# Altium footprint library CONN_TBLOCK_5P0_B.PcbLib: 72 footprints (part 1 of 5)
Each footprint in its own frame and in the unit in brackets; x right, y up, seen from the top. Pads: shape width x height; smd on the part's side, far side on the other; paste and mask are expansions set on the pad; w line width, h text height; cw(c..) or ccw(c..) is an arc to the next point about the centre after c.
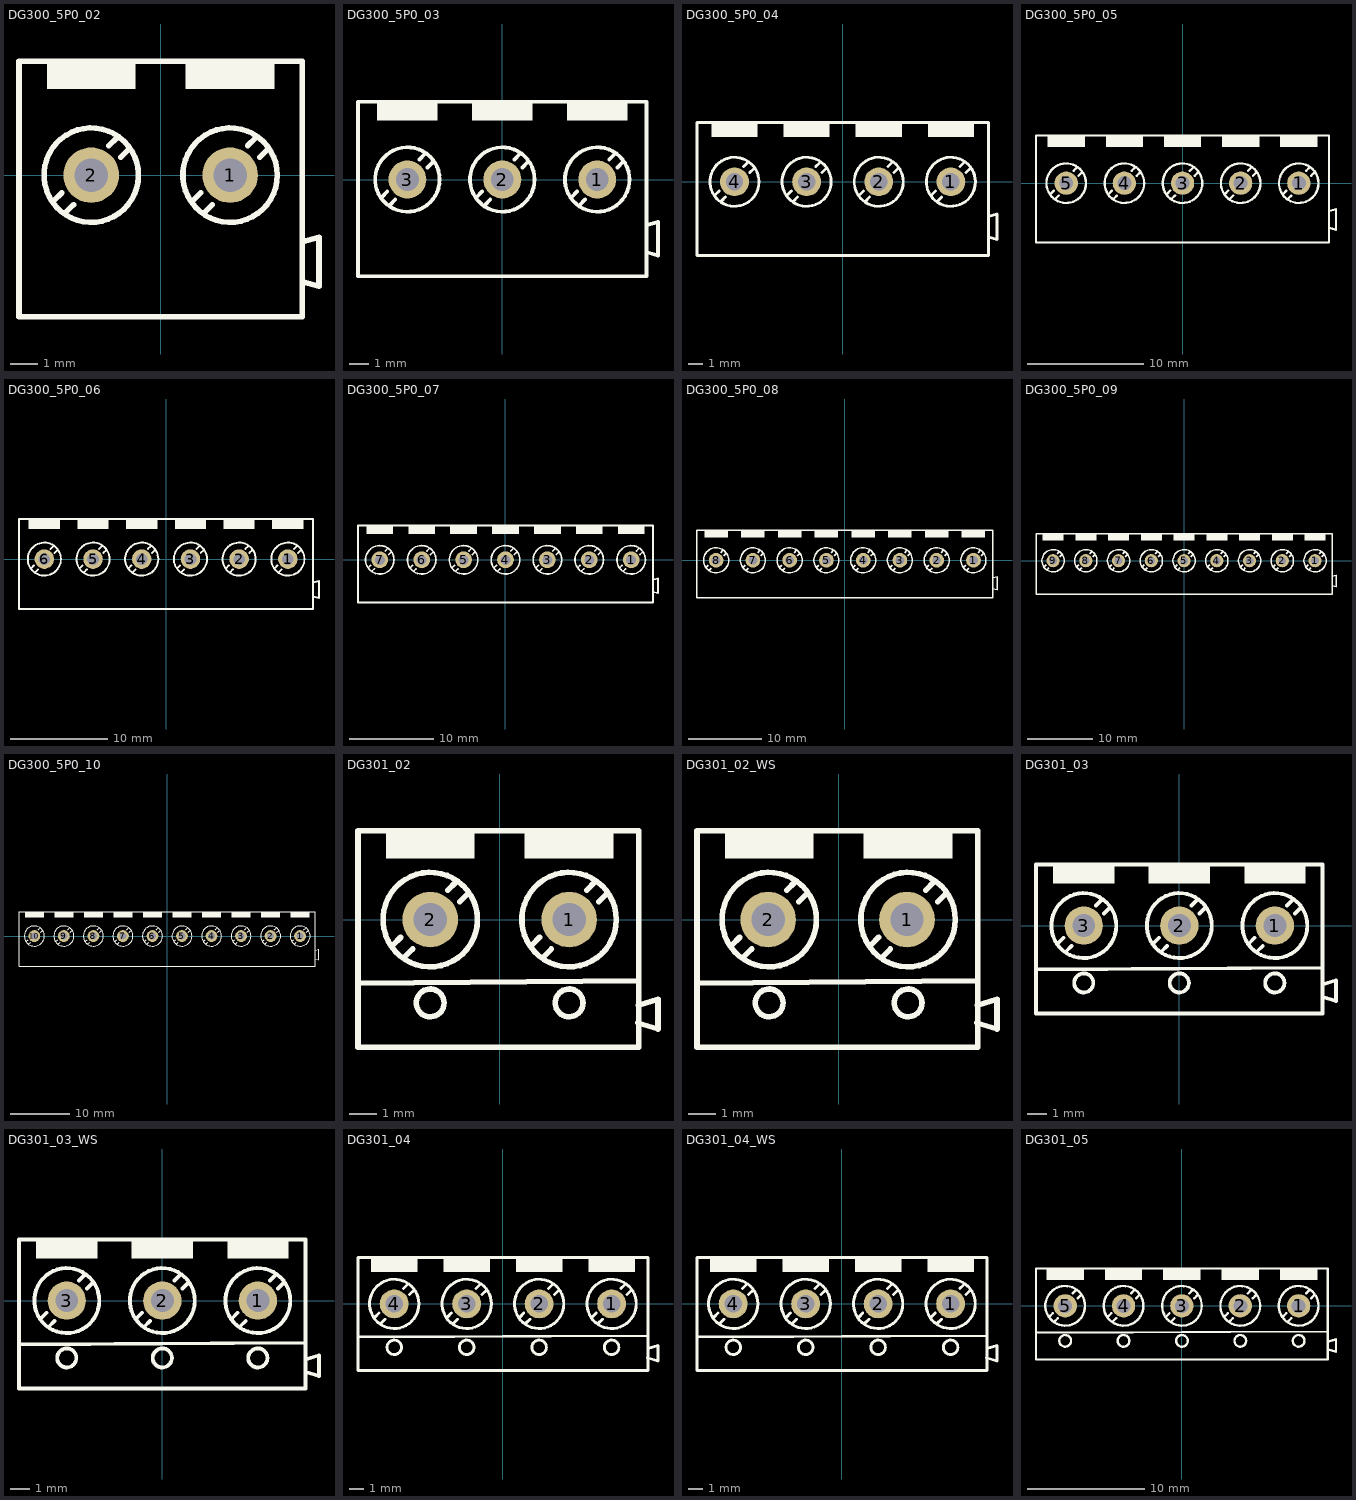
[diagram p0: the footprints below, top view; thin cyan lines are the x and y axes]

## DG300_5P0_02 [mm] "Terminal Screw, Pitch 5mm, H 13.5mm"
height 13.5
pads (2):
  round 2 / inner round 2 / far side rect 2.4x3 hole 1.2: 1(2.5,0)
  round 2 / inner round 2 / far side oval 2.4x3 hole 1.2: 2(-2.5,0)
Top Overlay:
  circle w0.2: c2.5,0 r1.7
  circle w0.2: c-2.5,0 r1.7
  region: -0.9,4.1 -4.1,4.1 -4.1,3.1 -0.9,3.1
  rectangle: 0.9,3.1 4.1,4.1
  lines w0.2: -3.843,-0.919 -3.561,-0.636 ; -3.419,-1.344 -3.136,-1.061 ; -1.864,1.061 -1.581,1.343 ; -1.439,0.636 -1.156,0.919 ; 1.156,-0.919 1.439,-0.636 ; 1.581,-1.344 1.864,-1.061 ; 3.136,1.061 3.419,1.343 ; 3.561,0.636 3.843,0.919 ; 5.1,-3.833 5.7,-4 5.7,-2.233 5.1,-2.4 ; -5.1,-5.1 5.1,-5.1 5.1,4.1 -5.1,4.1 -5.1,-5.1
3D body "DG300-5.0-02P.stp": height 12.55, standoff -4.45, extent -5,-5 5.6,4

## DG300_5P0_03 [mm] "Terminal Screw, Pitch 5mm, H 12.6mm"
height 12.6
pads (3):
  round 2 / inner round 2 / far side rect 2.4x3 hole 1.2: 1(5,0)
  round 2 / inner round 2 / far side oval 2.4x3 hole 1.2: 2(0,0) 3(-5,0)
Top Overlay:
  circle w0.2: c-5,0 r1.7
  circle w0.2: c0,0 r1.7
  circle w0.2: c5,0 r1.7
  rectangle: -6.6,3.1 -3.4,4.1
  rectangle: 3.4,3.1 6.6,4.1
  region: 1.6,4.1 -1.6,4.1 -1.6,3.1 1.6,3.1
  lines w0.2: -6.344,-0.919 -6.061,-0.636 ; -5.919,-1.344 -5.637,-1.061 ; -4.364,1.061 -4.081,1.343 ; -3.94,0.636 -3.657,0.919 ; -1.344,-0.919 -1.061,-0.636 ; -0.919,-1.344 -0.636,-1.061 ; 0.636,1.061 0.919,1.343 ; 1.061,0.636 1.343,0.919 ; 3.656,-0.919 3.939,-0.636 ; 4.081,-1.344 4.364,-1.061 ; 5.636,1.061 5.919,1.343 ; 6.061,0.636 6.343,0.919 ; 7.6,-3.833 8.2,-4 8.2,-2.233 7.6,-2.4 ; -7.6,-5.1 -7.6,4.1 7.6,4.1 7.6,-5.1 -7.6,-5.1
3D body "DG300-5.0-03P.stp": height 12.55, standoff -4.45, extent -7.5,-5 8.1,4

## DG300_5P0_04 [mm] "Terminal Screw, Pitch 5mm, H 12.6mm"
height 12.6
pads (4):
  round 2 / inner round 2 / far side rect 2.4x3 hole 1.2: 1(7.5,0)
  round 2 / inner round 2 / far side oval 2.4x3 hole 1.2: 2(2.5,0) 3(-2.5,0) 4(-7.5,0)
Top Overlay:
  circle w0.2: c7.5,0 r1.7
  circle w0.2: c2.5,0 r1.7
  circle w0.2: c-2.5,0 r1.7
  circle w0.2: c-7.5,0 r1.7
  region: 4.1,4.1 0.9,4.1 0.9,3.1 4.1,3.1
  rectangle: 5.9,3.1 9.1,4.1
  region: -5.9,4.1 -9.1,4.1 -9.1,3.1 -5.9,3.1
  rectangle: -4.1,3.1 -0.9,4.1
  lines w0.2: -8.844,-0.919 -8.561,-0.636 ; -8.419,-1.344 -8.137,-1.061 ; -6.864,1.061 -6.581,1.343 ; -6.44,0.636 -6.157,0.919 ; -3.844,-0.919 -3.561,-0.636 ; -3.42,-1.344 -3.137,-1.061 ; -1.864,1.061 -1.581,1.343 ; -1.44,0.636 -1.157,0.919 ; 1.156,-0.919 1.439,-0.636 ; 1.581,-1.344 1.864,-1.061 ; 3.136,1.061 3.419,1.343 ; 3.561,0.636 3.843,0.919 ; 6.156,-0.919 6.439,-0.636 ; 6.581,-1.344 6.863,-1.061 ; 8.136,1.061 8.419,1.343 ; 8.561,0.636 8.843,0.919 ; 10.1,-3.833 10.7,-4 10.7,-2.233 10.1,-2.4 ; -10.1,-5.1 10.1,-5.1 10.1,4.1 -10.1,4.1 -10.1,-5.1
3D body "DG300-5.0-04P.stp": height 12.55, standoff -4.45, extent -10,-5 10.6,4

## DG300_5P0_05 [mm] "Terminal Screw, Pitch 5mm, H 12.6mm"
height 12.6
pads (5):
  round 2 / inner round 2 / far side rect 2.4x3 hole 1.2: 1(10,0)
  round 2 / inner round 2 / far side oval 2.4x3 hole 1.2: 2(5,0) 3(0,0) 4(-5,0) 5(-10,0)
Top Overlay:
  circle w0.2: c-10,0 r1.7
  circle w0.2: c-5,0 r1.7
  circle w0.2: c0,0 r1.7
  circle w0.2: c5,0 r1.7
  circle w0.2: c10,0 r1.7
  rectangle: -11.6,3.1 -8.4,4.1
  rectangle: -1.6,3.1 1.6,4.1
  region: -3.4,4.1 -6.6,4.1 -6.6,3.1 -3.4,3.1
  rectangle: 8.4,3.1 11.6,4.1
  region: 6.6,4.1 3.4,4.1 3.4,3.1 6.6,3.1
  lines w0.2: -11.344,-0.919 -11.061,-0.636 ; -10.919,-1.344 -10.637,-1.061 ; -9.364,1.061 -9.081,1.343 ; -8.939,0.636 -8.657,0.919 ; -6.344,-0.919 -6.061,-0.636 ; -5.919,-1.344 -5.637,-1.061 ; -4.364,1.061 -4.081,1.343 ; -3.94,0.636 -3.657,0.919 ; -1.344,-0.919 -1.061,-0.636 ; -0.92,-1.344 -0.637,-1.061 ; 0.636,1.061 0.919,1.343 ; 1.06,0.636 1.343,0.919 ; 3.656,-0.919 3.939,-0.636 ; 4.081,-1.344 4.364,-1.061 ; 5.636,1.061 5.919,1.343 ; 6.061,0.636 6.343,0.919 ; 8.656,-0.919 8.939,-0.636 ; 9.081,-1.344 9.363,-1.061 ; 10.636,1.061 10.919,1.343 ; 11.061,0.636 11.343,0.919 ; 12.6,-3.833 13.2,-4 13.2,-2.233 12.6,-2.4 ; -12.6,-5.1 -12.6,4.1 12.6,4.1 12.6,-5.1 -12.6,-5.1
3D body "DG300-5.0-05P.stp": height 12.55, standoff -4.45, extent -12.5,-5 13.1,4

## DG300_5P0_06 [mm] "Terminal Screw, Pitch 5mm, H 12.6mm"
height 12.6
pads (6):
  round 2 / inner round 2 / far side rect 2.4x3 hole 1.2: 1(12.5,0)
  round 2 / inner round 2 / far side oval 2.4x3 hole 1.2: 2(7.5,0) 3(2.5,0) 4(-2.5,0) 5(-7.5,0) 6(-12.5,0)
Top Overlay:
  circle w0.2: c-12.5,0 r1.7
  circle w0.2: c-7.5,0 r1.7
  circle w0.2: c-2.5,0 r1.7
  circle w0.2: c2.5,0 r1.7
  circle w0.2: c7.5,0 r1.7
  circle w0.2: c12.5,0 r1.7
  rectangle: -9.1,3.1 -5.9,4.1
  region: -10.9,4.1 -14.1,4.1 -14.1,3.1 -10.9,3.1
  rectangle: 0.9,3.1 4.1,4.1
  region: -0.9,4.1 -4.1,4.1 -4.1,3.1 -0.9,3.1
  rectangle: 10.9,3.1 14.1,4.1
  region: 9.1,4.1 5.9,4.1 5.9,3.1 9.1,3.1
  lines w0.2: -13.844,-0.919 -13.561,-0.636 ; -13.419,-1.344 -13.137,-1.061 ; -11.864,1.061 -11.581,1.343 ; -11.439,0.636 -11.157,0.919 ; -8.844,-0.919 -8.561,-0.636 ; -8.419,-1.344 -8.137,-1.061 ; -6.864,1.061 -6.581,1.343 ; -6.44,0.636 -6.157,0.919 ; -3.844,-0.919 -3.561,-0.636 ; -3.42,-1.344 -3.137,-1.061 ; -1.864,1.061 -1.581,1.343 ; -1.44,0.636 -1.157,0.919 ; 1.156,-0.919 1.439,-0.636 ; 1.58,-1.344 1.863,-1.061 ; 3.136,1.061 3.419,1.343 ; 3.56,0.636 3.843,0.919 ; 6.156,-0.919 6.439,-0.636 ; 6.581,-1.344 6.863,-1.061 ; 8.136,1.061 8.419,1.343 ; 8.561,0.636 8.843,0.919 ; 11.156,-0.919 11.439,-0.636 ; 11.581,-1.344 11.863,-1.061 ; 13.136,1.061 13.419,1.343 ; 13.56,0.636 13.843,0.919 ; 15.1,-3.833 15.7,-4 15.7,-2.233 15.1,-2.4 ; -15.1,-5.1 -15.1,4.1 15.1,4.1 15.1,-5.1 -15.1,-5.1
3D body "DG300-5.0-06P.stp": height 12.55, standoff -4.45, extent -15,-5 15.6,4

## DG300_5P0_07 [mm] "Terminal Screw, Pitch 5mm, H 12.6mm"
height 12.6
pads (7):
  round 2 / inner round 2 / far side rect 2.4x3 hole 1.2: 1(15,0)
  round 2 / inner round 2 / far side oval 2.4x3 hole 1.2: 2(10,0) 3(5,0) 4(0,0) 5(-5,0) 6(-10,0) 7(-15,0)
Top Overlay:
  circle w0.2: c-15,0 r1.7
  circle w0.2: c-10,0 r1.7
  circle w0.2: c-5,0 r1.7
  circle w0.2: c0,0 r1.7
  circle w0.2: c5,0 r1.7
  circle w0.2: c10,0 r1.7
  circle w0.2: c15,0 r1.7
  rectangle: -16.6,3.1 -13.4,4.1
  rectangle: -6.6,3.1 -3.4,4.1
  region: -8.4,4.1 -11.6,4.1 -11.6,3.1 -8.4,3.1
  rectangle: 3.4,3.1 6.6,4.1
  region: 1.6,4.1 -1.6,4.1 -1.6,3.1 1.6,3.1
  rectangle: 13.4,3.1 16.6,4.1
  region: 11.6,4.1 8.4,4.1 8.4,3.1 11.6,3.1
  lines w0.2: -16.344,-0.919 -16.061,-0.636 ; -15.919,-1.344 -15.637,-1.061 ; -14.364,1.061 -14.081,1.343 ; -13.94,0.636 -13.657,0.919 ; -11.344,-0.919 -11.061,-0.636 ; -10.919,-1.344 -10.637,-1.061 ; -9.364,1.061 -9.081,1.343 ; -8.939,0.636 -8.657,0.919 ; -6.344,-0.919 -6.061,-0.636 ; -5.919,-1.344 -5.637,-1.061 ; -4.364,1.061 -4.081,1.343 ; -3.94,0.636 -3.657,0.919 ; -1.344,-0.919 -1.061,-0.636 ; -0.92,-1.344 -0.637,-1.061 ; 0.636,1.061 0.919,1.343 ; 1.06,0.636 1.343,0.919 ; 3.656,-0.919 3.939,-0.636 ; 4.08,-1.344 4.363,-1.061 ; 5.636,1.061 5.919,1.343 ; 6.06,0.636 6.343,0.919 ; 8.656,-0.919 8.939,-0.636 ; 9.081,-1.344 9.363,-1.061 ; 10.636,1.061 10.919,1.343 ; 11.061,0.636 11.343,0.919 ; 13.656,-0.919 13.939,-0.636 ; 14.081,-1.344 14.363,-1.061 ; 15.636,1.061 15.919,1.343 ; 16.06,0.636 16.343,0.919 ; 17.6,-3.833 18.2,-4 18.2,-2.233 17.6,-2.4 ; -17.6,-5.1 -17.6,4.1 17.6,4.1 17.6,-5.1 -17.6,-5.1
3D body "DG300-5.0-07P.stp": height 12.55, standoff -4.45, extent -17.5,-5 18.1,4

## DG300_5P0_08 [mm] "Terminal Screw, Pitch 5mm, H 12.6mm"
height 12.6
pads (8):
  round 2 / inner round 2 / far side rect 2.4x3 hole 1.2: 1(17.5,0)
  round 2 / inner round 2 / far side oval 2.4x3 hole 1.2: 2(12.5,0) 3(7.5,0) 4(2.5,0) 5(-2.5,0) 6(-7.5,0) 7(-12.5,0) 8(-17.5,0)
Top Overlay:
  circle w0.2: c17.5,0 r1.7
  circle w0.2: c12.5,0 r1.7
  circle w0.2: c7.5,0 r1.7
  circle w0.2: c2.5,0 r1.7
  circle w0.2: c-2.5,0 r1.7
  circle w0.2: c-7.5,0 r1.7
  circle w0.2: c-12.5,0 r1.7
  circle w0.2: c-17.5,0 r1.7
  region: 14.1,4.1 10.9,4.1 10.9,3.1 14.1,3.1
  rectangle: 15.9,3.1 19.1,4.1
  region: 4.1,4.1 0.9,4.1 0.9,3.1 4.1,3.1
  rectangle: 5.9,3.1 9.1,4.1
  region: -5.9,4.1 -9.1,4.1 -9.1,3.1 -5.9,3.1
  rectangle: -4.1,3.1 -0.9,4.1
  region: -15.9,4.1 -19.1,4.1 -19.1,3.1 -15.9,3.1
  rectangle: -14.1,3.1 -10.9,4.1
  lines w0.2: -18.844,-0.919 -18.561,-0.636 ; -18.419,-1.344 -18.137,-1.061 ; -16.864,1.061 -16.581,1.343 ; -16.44,0.636 -16.157,0.919 ; -13.844,-0.919 -13.561,-0.636 ; -13.419,-1.344 -13.137,-1.061 ; -11.864,1.061 -11.581,1.343 ; -11.44,0.636 -11.157,0.919 ; -8.844,-0.919 -8.561,-0.636 ; -8.419,-1.344 -8.137,-1.061 ; -6.864,1.061 -6.581,1.343 ; -6.44,0.636 -6.157,0.919 ; -3.844,-0.919 -3.561,-0.636 ; -3.419,-1.344 -3.137,-1.061 ; -1.864,1.061 -1.581,1.343 ; -1.44,0.636 -1.157,0.919 ; 1.156,-0.919 1.439,-0.636 ; 1.58,-1.344 1.863,-1.061 ; 3.136,1.061 3.419,1.343 ; 3.56,0.636 3.843,0.919 ; 6.156,-0.919 6.439,-0.636 ; 6.58,-1.344 6.863,-1.061 ; 8.136,1.061 8.419,1.343 ; 8.56,0.636 8.843,0.919 ; 11.156,-0.919 11.439,-0.636 ; 11.581,-1.344 11.863,-1.061 ; 13.136,1.061 13.419,1.343 ; 13.56,0.636 13.843,0.919 ; 16.156,-0.919 16.439,-0.636 ; 16.581,-1.344 16.863,-1.061 ; 18.136,1.061 18.419,1.343 ; 18.56,0.636 18.843,0.919 ; 20.1,-3.833 20.7,-4 20.7,-2.233 20.1,-2.4 ; -20.1,-5.1 20.1,-5.1 20.1,4.1 -20.1,4.1 -20.1,-5.1
3D body "DG300-5.0-08P.stp": height 12.55, standoff -4.45, extent -20,-5 20.6,4

## DG300_5P0_09 [mm] "Terminal Screw, Pitch 5mm, H 12.6mm"
height 12.6
pads (9):
  round 2 / inner round 2 / far side rect 2.4x3 hole 1.2: 1(20,0)
  round 2 / inner round 2 / far side oval 2.4x3 hole 1.2: 2(15,0) 3(10,0) 4(5,0) 5(0,0) 6(-5,0) 7(-10,0) 8(-15,0) 9(-20,0)
Top Overlay:
  circle w0.2: c20,0 r1.7
  circle w0.2: c15,0 r1.7
  circle w0.2: c10,0 r1.7
  circle w0.2: c5,0 r1.7
  circle w0.2: c0,0 r1.7
  circle w0.2: c-5,0 r1.7
  circle w0.2: c-10,0 r1.7
  circle w0.2: c-15,0 r1.7
  circle w0.2: c-20,0 r1.7
  region: 16.6,4.1 13.4,4.1 13.4,3.1 16.6,3.1
  rectangle: 18.4,3.1 21.6,4.1
  region: 6.6,4.1 3.4,4.1 3.4,3.1 6.6,3.1
  rectangle: 8.4,3.1 11.6,4.1
  region: -3.4,4.1 -6.6,4.1 -6.6,3.1 -3.4,3.1
  rectangle: -1.6,3.1 1.6,4.1
  region: -13.4,4.1 -16.6,4.1 -16.6,3.1 -13.4,3.1
  rectangle: -11.6,3.1 -8.4,4.1
  rectangle: -21.6,3.1 -18.4,4.1
  lines w0.2: -21.344,-0.919 -21.061,-0.636 ; -20.92,-1.344 -20.637,-1.061 ; -19.364,1.061 -19.081,1.343 ; -18.94,0.636 -18.657,0.919 ; -16.344,-0.919 -16.061,-0.636 ; -15.919,-1.344 -15.637,-1.061 ; -14.364,1.061 -14.081,1.343 ; -13.94,0.636 -13.657,0.919 ; -11.344,-0.919 -11.061,-0.636 ; -10.92,-1.344 -10.637,-1.061 ; -9.364,1.061 -9.081,1.343 ; -8.94,0.636 -8.657,0.919 ; -6.344,-0.919 -6.061,-0.636 ; -5.919,-1.344 -5.637,-1.061 ; -4.364,1.061 -4.081,1.343 ; -3.94,0.636 -3.657,0.919 ; -1.344,-0.919 -1.061,-0.636 ; -0.92,-1.344 -0.637,-1.061 ; 0.636,1.061 0.919,1.343 ; 1.06,0.636 1.343,0.919 ; 3.656,-0.919 3.939,-0.636 ; 4.08,-1.344 4.363,-1.061 ; 5.636,1.061 5.919,1.343 ; 6.06,0.636 6.343,0.919 ; 8.656,-0.919 8.939,-0.636 ; 9.08,-1.344 9.363,-1.061 ; 10.636,1.061 10.919,1.343 ; 11.06,0.636 11.343,0.919 ; 13.656,-0.919 13.939,-0.636 ; 14.081,-1.344 14.363,-1.061 ; 15.636,1.061 15.919,1.343 ; 16.06,0.636 16.343,0.919 ; 18.656,-0.919 18.939,-0.636 ; 19.08,-1.344 19.363,-1.061 ; 20.636,1.061 20.919,1.343 ; 21.06,0.636 21.343,0.919 ; 22.6,-3.833 23.2,-4 23.2,-2.233 22.6,-2.4 ; -22.6,-5.1 22.6,-5.1 22.6,4.1 -22.6,4.1 -22.6,-5.1
3D body "DG300-5.0-09P.stp": height 12.55, standoff -4.45, extent -22.5,-5 23.1,4

## DG300_5P0_10 [mm] "Terminal Screw, Pitch 5mm, H 12.6mm"
height 12.6
pads (10):
  round 2 / inner round 2 / far side rect 2.4x3 hole 1.2: 1(22.5,0)
  round 2 / inner round 2 / far side oval 2.4x3 hole 1.2: 2(17.5,0) 3(12.5,0) 4(7.5,0) 5(2.5,0) 6(-2.5,0) 7(-7.5,0) 8(-12.5,0) 9(-17.5,0) 10(-22.5,0)
Top Overlay:
  circle w0.2: c22.5,0 r1.7
  circle w0.2: c17.5,0 r1.7
  circle w0.2: c12.5,0 r1.7
  circle w0.2: c7.5,0 r1.7
  circle w0.2: c2.5,0 r1.7
  circle w0.2: c-2.5,0 r1.7
  circle w0.2: c-7.5,0 r1.7
  circle w0.2: c-12.5,0 r1.7
  circle w0.2: c-17.5,0 r1.7
  circle w0.2: c-22.5,0 r1.7
  region: 19.1,4.1 15.9,4.1 15.9,3.1 19.1,3.1
  rectangle: 20.9,3.1 24.1,4.1
  region: 9.1,4.1 5.9,4.1 5.9,3.1 9.1,3.1
  rectangle: 10.9,3.1 14.1,4.1
  region: -0.9,4.1 -4.1,4.1 -4.1,3.1 -0.9,3.1
  rectangle: 0.9,3.1 4.1,4.1
  region: -10.9,4.1 -14.1,4.1 -14.1,3.1 -10.9,3.1
  rectangle: -9.1,3.1 -5.9,4.1
  region: -20.9,4.1 -24.1,4.1 -24.1,3.1 -20.9,3.1
  rectangle: -19.1,3.1 -15.9,4.1
  lines w0.2: -23.844,-0.919 -23.561,-0.636 ; -23.419,-1.344 -23.137,-1.061 ; -21.864,1.061 -21.581,1.343 ; -21.44,0.636 -21.157,0.919 ; -18.844,-0.919 -18.561,-0.636 ; -18.42,-1.344 -18.137,-1.061 ; -16.864,1.061 -16.581,1.343 ; -16.44,0.636 -16.157,0.919 ; -13.844,-0.919 -13.561,-0.636 ; -13.419,-1.344 -13.137,-1.061 ; -11.864,1.061 -11.581,1.343 ; -11.44,0.636 -11.157,0.919 ; -8.844,-0.919 -8.561,-0.636 ; -8.42,-1.344 -8.137,-1.061 ; -6.864,1.061 -6.581,1.343 ; -6.44,0.636 -6.157,0.919 ; -3.844,-0.919 -3.561,-0.636 ; -3.419,-1.344 -3.137,-1.061 ; -1.864,1.061 -1.581,1.343 ; -1.44,0.636 -1.157,0.919 ; 1.156,-0.919 1.439,-0.636 ; 1.58,-1.344 1.863,-1.061 ; 3.136,1.061 3.419,1.343 ; 3.56,0.636 3.843,0.919 ; 6.156,-0.919 6.439,-0.636 ; 6.58,-1.344 6.863,-1.061 ; 8.136,1.061 8.419,1.343 ; 8.56,0.636 8.843,0.919 ; 11.156,-0.919 11.439,-0.636 ; 11.58,-1.344 11.863,-1.061 ; 13.136,1.061 13.419,1.343 ; 13.56,0.636 13.843,0.919 ; 16.156,-0.919 16.439,-0.636 ; 16.581,-1.344 16.863,-1.061 ; 18.136,1.061 18.419,1.343 ; 18.56,0.636 18.843,0.919 ; 21.156,-0.919 21.439,-0.636 ; 21.58,-1.344 21.863,-1.061 ; 23.136,1.061 23.419,1.343 ; 23.56,0.636 23.843,0.919 ; 25.1,-3.833 25.7,-4 25.7,-2.233 25.1,-2.4 ; -25.1,-5.1 25.1,-5.1 25.1,4.1 -25.1,4.1 -25.1,-5.1
3D body "DG300-5.0-10P.stp": height 12.55, standoff -4.45, extent -25,-5 25.6,4

## DG301_02 [mm] "Terminal Screw, Pitch 5mm, Blue, H 10mm"
height 10
pads (2):
  round 2 / inner round 2 / far side rect 2.4x3 hole 1.2: 1(2.5,0)
  round 2 / inner round 2 / far side oval 2.4x3 hole 1.2: 2(-2.5,0)
Top Overlay:
  circle w0.2: c-2.5,0 r1.7
  circle w0.2: c2.5,0 r1.7
  circle w0.2: c-2.5,-3 r0.5
  circle w0.2: c2.5,-3 r0.5
  region: 4.1,3.2 0.9,3.2 0.9,2.2 4.1,2.2
  region: -0.9,3.2 -4.1,3.2 -4.1,2.2 -0.9,2.2
  lines w0.2: -5.1,-2.3 5,-2.2 ; -3.843,-0.919 -3.561,-0.636 ; -3.419,-1.344 -3.136,-1.061 ; -1.864,1.061 -1.581,1.343 ; -1.439,0.636 -1.156,0.919 ; 1.156,-0.919 1.439,-0.636 ; 1.581,-1.344 1.864,-1.061 ; 3.136,1.061 3.419,1.343 ; 3.561,0.636 3.843,0.919 ; 4.977,-3.722 5.7,-3.941 5.7,-2.867 4.994,-3.081 ; -5.1,-4.6 5,-4.6 5,3.2 -5.1,3.2 -5.1,-4.6
3D body "DG301-5.0-02.stp": height 10.05, standoff -4.25, extent -5,-4.5 5.6,3.1

## DG301_02_WS [mm] "Terminal Screw, Pitch 5mm, H 10mm, with spade"
height 19
pads (2):
  round 2 / inner round 2 / far side rect 2.4x3 hole 1.2: 1(2.46,0)
  round 2 / inner round 2 / far side oval 2.4x3 hole 1.2: 2(-2.54,0)
Top Overlay:
  circle w0.2: c2.5,-3 r0.5
  circle w0.2: c-2.5,-3 r0.5
  circle w0.2: c2.5,0 r1.7
  circle w0.2: c-2.5,0 r1.7
  region: -0.9,3.2 -4.1,3.2 -4.1,2.2 -0.9,2.2
  region: 4.1,3.2 0.9,3.2 0.9,2.2 4.1,2.2
  lines w0.2: -5.1,-2.3 5,-2.2 ; -3.843,-0.919 -3.561,-0.636 ; -3.419,-1.344 -3.136,-1.061 ; -1.864,1.061 -1.581,1.343 ; -1.439,0.636 -1.156,0.919 ; 1.156,-0.919 1.439,-0.636 ; 1.581,-1.344 1.864,-1.061 ; 3.136,1.061 3.419,1.343 ; 3.561,0.636 3.843,0.919 ; 4.977,-3.722 5.7,-3.941 5.7,-2.867 4.994,-3.081 ; -5.1,-4.6 -5.1,3.2 5,3.2 5,-4.6 -5.1,-4.6
3D body "DG301-5.0-02.stp": height 10, standoff -4.3, extent -5.04,-4.5 5.56,3.1
3D body "MDD1.25-110(5).step": height 6.3, standoff 0.91, extent -5.237,-1.524 0.157,17.476
3D body "MDD1.25-110(5).step": height 6.3, standoff 0.91, extent -0.237,-1.524 5.157,17.476

## DG301_03 [mm] "Terminal Screw, Pitch 5mm, Blue, H 10mm"
height 10
pads (3):
  round 2 / inner round 2 / far side rect 2.4x3 hole 1.2: 1(5,0)
  round 2 / inner round 2 / far side oval 2.4x3 hole 1.2: 2(0,0) 3(-5,0)
Top Overlay:
  circle w0.2: c-5,0 r1.7
  circle w0.2: c-5,-3 r0.5
  circle w0.2: c0,0 r1.7
  circle w0.2: c5,0 r1.7
  circle w0.2: c0,-3 r0.5
  circle w0.2: c5,-3 r0.5
  region: -3.4,3.2 -6.6,3.2 -6.6,2.2 -3.4,2.2
  region: 6.6,3.2 3.4,3.2 3.4,2.2 6.6,2.2
  region: 1.6,3.2 -1.6,3.2 -1.6,2.2 1.6,2.2
  lines w0.2: -7.5,-2.3 7.5,-2.2 ; -6.343,-0.919 -6.061,-0.636 ; -5.919,-1.344 -5.636,-1.061 ; -4.364,1.061 -4.081,1.343 ; -3.939,0.636 -3.656,0.919 ; -1.344,-0.919 -1.061,-0.636 ; -0.919,-1.344 -0.636,-1.061 ; 0.636,1.061 0.919,1.343 ; 1.061,0.636 1.343,0.919 ; 3.656,-0.919 3.939,-0.636 ; 4.081,-1.344 4.363,-1.061 ; 5.636,1.061 5.919,1.343 ; 6.061,0.636 6.343,0.919 ; 7.476,-3.722 8.2,-3.941 8.2,-2.867 7.494,-3.081 ; -7.5,-4.6 7.5,-4.6 7.5,3.2 -7.5,3.2 -7.5,-4.6
3D body "DG301-5.0-03.stp": height 10, standoff -4.3, extent -7.5,-4.5 8.1,3.1

## DG301_03_WS [mm] "Terminal Screw, Pitch 5mm, H 10mm, with spade"
height 19
pads (3):
  round 2 / inner round 2 / far side rect 2.4x3 hole 1.2: 1(5,0)
  round 2 / inner round 2 / far side oval 2.4x3 hole 1.2: 2(0,0) 3(-5,0)
Top Overlay:
  circle w0.2: c-5,0 r1.7
  circle w0.2: c-5,-3 r0.5
  circle w0.2: c0,0 r1.7
  circle w0.2: c5,0 r1.7
  circle w0.2: c0,-3 r0.5
  circle w0.2: c5,-3 r0.5
  region: -3.4,3.2 -6.6,3.2 -6.6,2.2 -3.4,2.2
  region: 6.6,3.2 3.4,3.2 3.4,2.2 6.6,2.2
  region: 1.6,3.2 -1.6,3.2 -1.6,2.2 1.6,2.2
  lines w0.2: -7.5,-2.3 7.5,-2.2 ; -6.343,-0.919 -6.06,-0.636 ; -5.919,-1.344 -5.636,-1.061 ; -4.363,1.061 -4.081,1.343 ; -3.939,0.636 -3.656,0.919 ; -1.343,-0.919 -1.061,-0.636 ; -0.919,-1.344 -0.636,-1.061 ; 0.636,1.061 0.919,1.343 ; 1.061,0.636 1.344,0.919 ; 3.656,-0.919 3.939,-0.636 ; 4.081,-1.344 4.364,-1.061 ; 5.636,1.061 5.919,1.343 ; 6.061,0.636 6.343,0.919 ; 7.477,-3.722 8.2,-3.941 8.2,-2.867 7.494,-3.081 ; -7.5,-4.6 7.5,-4.6 7.501,3.2 -7.5,3.2 -7.5,-4.6
3D body "MDD1.25-110(5).step": height 6.3, standoff 0.91, extent 2.303,-1.524 7.697,17.476
3D body "MDD1.25-110(5).step": height 6.3, standoff 0.91, extent -2.697,-1.524 2.697,17.476
3D body "MDD1.25-110(5).step": height 6.3, standoff 0.91, extent -7.697,-1.524 -2.303,17.476
3D body "DG301-5.0-03.stp": height 10, standoff -4.3, extent -7.5,-4.5 8.1,3.1

## DG301_04 [mm] "Terminal Screw, Pitch 5mm, Blue, H 10mm"
height 10
pads (4):
  round 2 / inner round 2 / far side rect 2.4x3 hole 1.2: 1(7.5,0)
  round 2 / inner round 2 / far side oval 2.4x3 hole 1.2: 2(2.5,0) 3(-2.5,0) 4(-7.5,0)
Top Overlay:
  circle w0.2: c-7.5,0 r1.7
  circle w0.2: c-2.5,0 r1.7
  circle w0.2: c-7.5,-3 r0.5
  circle w0.2: c-2.5,-3 r0.5
  circle w0.2: c2.5,0 r1.7
  circle w0.2: c7.5,0 r1.7
  circle w0.2: c2.5,-3 r0.5
  circle w0.2: c7.5,-3 r0.5
  region: -0.9,3.2 -4.1,3.2 -4.1,2.2 -0.9,2.2
  region: -5.9,3.2 -9.1,3.2 -9.1,2.2 -5.9,2.2
  region: 9.1,3.2 5.9,3.2 5.9,2.2 9.1,2.2
  region: 4.1,3.2 0.9,3.2 0.9,2.2 4.1,2.2
  lines w0.2: -10,-2.3 10,-2.2 ; -8.843,-0.919 -8.561,-0.636 ; -8.419,-1.344 -8.136,-1.061 ; -6.864,1.061 -6.581,1.343 ; -6.439,0.636 -6.156,0.919 ; -3.843,-0.919 -3.561,-0.636 ; -3.419,-1.344 -3.136,-1.061 ; -1.864,1.061 -1.581,1.343 ; -1.439,0.636 -1.156,0.919 ; 1.156,-0.919 1.439,-0.636 ; 1.581,-1.344 1.863,-1.061 ; 3.136,1.061 3.419,1.343 ; 3.561,0.636 3.843,0.919 ; 6.156,-0.919 6.439,-0.636 ; 6.581,-1.344 6.863,-1.061 ; 8.136,1.061 8.419,1.343 ; 8.56,0.636 8.843,0.919 ; 9.976,-3.722 10.7,-3.941 10.7,-2.867 9.994,-3.081 ; -10,-4.6 10,-4.6 10,3.2 -10,3.2 -10,-4.6
3D body "DG301-5.0-04.stp": height 10, standoff -4.3, extent -10,-4.5 10.6,3.1

## DG301_04_WS [mm] "Terminal Screw, Pitch 5mm, H 10mm, with spade"
height 19
pads (4):
  round 2 / inner round 2 / far side rect 2.4x3 hole 1.2: 1(7.5,0)
  round 2 / inner round 2 / far side oval 2.4x3 hole 1.2: 2(2.5,0) 3(-2.5,0) 4(-7.5,0)
Top Overlay:
  circle w0.2: c7.5,-3 r0.5
  circle w0.2: c2.5,-3 r0.5
  circle w0.2: c7.5,0 r1.7
  circle w0.2: c2.5,0 r1.7
  circle w0.2: c-2.5,-3 r0.5
  circle w0.2: c-7.5,-3 r0.5
  circle w0.2: c-2.5,0 r1.7
  circle w0.2: c-7.5,0 r1.7
  region: 4.1,3.2 0.9,3.2 0.9,2.2 4.1,2.2
  region: 9.1,3.2 5.9,3.2 5.9,2.2 9.1,2.2
  region: -5.9,3.2 -9.1,3.2 -9.1,2.2 -5.9,2.2
  region: -0.9,3.2 -4.1,3.2 -4.1,2.2 -0.9,2.2
  lines w0.2: -10,-2.3 10,-2.2 ; -8.843,-0.919 -8.561,-0.636 ; -8.419,-1.344 -8.136,-1.061 ; -6.864,1.061 -6.581,1.343 ; -6.439,0.636 -6.156,0.919 ; -3.843,-0.919 -3.561,-0.636 ; -3.419,-1.344 -3.136,-1.061 ; -1.864,1.061 -1.581,1.343 ; -1.439,0.636 -1.156,0.919 ; 1.156,-0.919 1.439,-0.636 ; 1.581,-1.344 1.863,-1.061 ; 3.136,1.061 3.419,1.343 ; 3.561,0.636 3.843,0.919 ; 6.156,-0.919 6.439,-0.636 ; 6.581,-1.344 6.863,-1.061 ; 8.136,1.061 8.419,1.343 ; 8.56,0.636 8.843,0.919 ; 9.976,-3.722 10.7,-3.941 10.7,-2.867 9.994,-3.081 ; -10,-4.6 -10,3.2 10,3.2 10,-4.6 -10,-4.6
3D body "DG301-5.0-04.stp": height 10, standoff -4.3, extent -10,-4.5 10.6,3.1
3D body "MDD1.25-110(5).step": height 6.3, standoff 0.91, extent -10.197,-1.524 -4.803,17.476
3D body "MDD1.25-110(5).step": height 6.3, standoff 0.91, extent -5.197,-1.524 0.197,17.476
3D body "MDD1.25-110(5).step": height 6.3, standoff 0.91, extent -0.197,-1.524 5.197,17.476
3D body "MDD1.25-110(5).step": height 6.3, standoff 0.91, extent 4.803,-1.524 10.197,17.476

## DG301_05 [mm] "Terminal Screw, Pitch 5mm, Blue, H 10mm"
height 10
pads (5):
  round 2 / inner round 2 / far side rect 2.4x3 hole 1.2: 1(10,0)
  round 2 / inner round 2 / far side oval 2.4x3 hole 1.2: 2(5,0) 3(0,0) 4(-5,0) 5(-10,0)
Top Overlay:
  circle w0.2: c10,-3 r0.5
  circle w0.2: c5,-3 r0.5
  circle w0.2: c10,0 r1.7
  circle w0.2: c5,0 r1.7
  circle w0.2: c0,-3 r0.5
  circle w0.2: c-5,-3 r0.5
  circle w0.2: c0,0 r1.7
  circle w0.2: c-5,0 r1.7
  circle w0.2: c-10,-3 r0.5
  circle w0.2: c-10,0 r1.7
  region: 6.6,3.2 3.4,3.2 3.4,2.2 6.6,2.2
  region: 11.6,3.2 8.4,3.2 8.4,2.2 11.6,2.2
  region: -3.4,3.2 -6.6,3.2 -6.6,2.2 -3.4,2.2
  region: 1.6,3.2 -1.6,3.2 -1.6,2.2 1.6,2.2
  region: -8.4,3.2 -11.6,3.2 -11.6,2.2 -8.4,2.2
  lines w0.2: -12.5,-2.3 12.5,-2.2 ; -11.343,-0.919 -11.06,-0.636 ; -10.919,-1.344 -10.636,-1.061 ; -9.363,1.061 -9.081,1.343 ; -8.939,0.636 -8.656,0.919 ; -6.343,-0.919 -6.061,-0.636 ; -5.919,-1.344 -5.636,-1.061 ; -4.364,1.061 -4.081,1.343 ; -3.939,0.636 -3.656,0.919 ; -1.344,-0.919 -1.061,-0.636 ; -0.919,-1.344 -0.636,-1.061 ; 0.636,1.061 0.919,1.343 ; 1.061,0.636 1.343,0.919 ; 3.656,-0.919 3.939,-0.636 ; 4.081,-1.344 4.363,-1.061 ; 5.636,1.061 5.919,1.343 ; 6.06,0.636 6.343,0.919 ; 8.656,-0.919 8.939,-0.636 ; 9.081,-1.344 9.363,-1.061 ; 10.636,1.061 10.919,1.343 ; 11.06,0.636 11.343,0.919 ; 12.476,-3.722 13.2,-3.941 13.2,-2.867 12.494,-3.081 ; -12.5,-4.6 -12.5,3.2 12.5,3.2 12.5,-4.6 -12.5,-4.6
3D body "DG301-5.0-05.stp": height 10, standoff -4.3, extent -12.5,-4.5 13.1,3.1